# Altium footprint library CHRY-MX1A-11NW_V.PcbLib: 1 footprints
Each footprint in its own frame and in the unit in brackets; x right, y up, seen from the top. Pads: shape width x height; smd on the part's side, far side on the other; paste and mask are expansions set on the pad; w line width, h text height; cw(c..) or ccw(c..) is an arc to the next point about the centre after c.
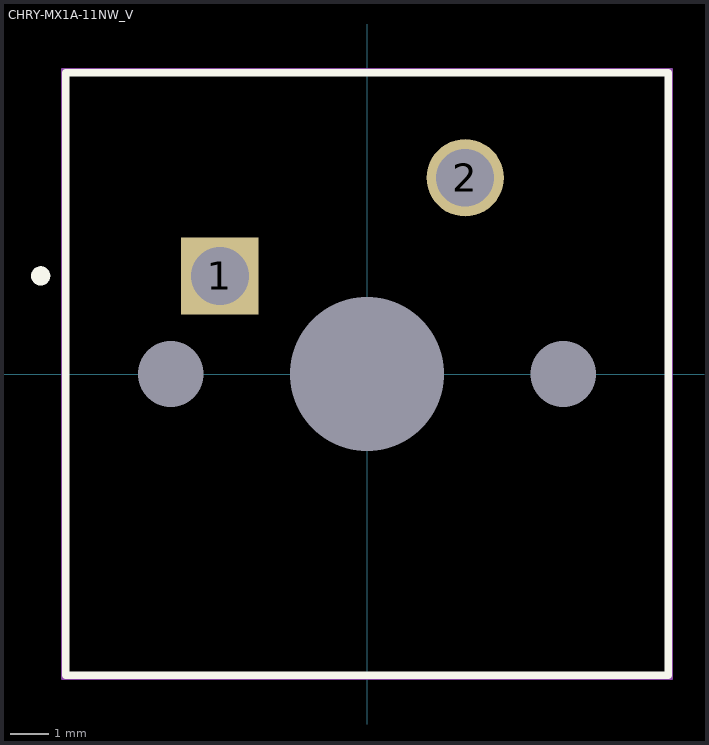
[diagram p0: the footprint, top view; thin cyan lines are the x and y axes]

## CHRY-MX1A-11NW_V [mm] "THD, 2-Leads, Body 15.6x15.6mm"
height 15.2
pads (5):
  rect 2x2 hole 1.499 paste+0: 1(-3.81,2.54)
  round 2 hole 1.499 paste+0: 2(2.54,5.08)
  round 0 hole 3.988 unplated paste+0: MH1(0,0)
  round 0 hole 1.702 unplated paste+0: MH2(-5.08,0) MH3(5.08,0)
Top Overlay:
  circle w0.25: c-8.45,2.54 r0.125
  lines w0.2: -7.8,-7.8 -7.8,7.8 7.8,7.8 7.8,-7.8 -7.8,-7.8
Mechanical 13:
  lines w0.1: -7.8,-7.8 7.8,-7.8 7.8,7.8 -7.8,7.8 -7.8,-7.8
Mechanical 15:
  lines w0.05: -7.9,-7.9 7.9,-7.9 7.9,7.9 -7.9,7.9 -7.9,-7.9
  lines w0.1: -0.5,0 0.5,0 ; 0,-0.5 0,0.5
3D body "MX Series-Cherry Key.STEP": height 15.6, standoff -3.3, extent -7.874,-7.812 7.726,7.788